# EAGLE library part ESP-WROOM-32_NOFLASH_PINHEAD (library esp32 _my)
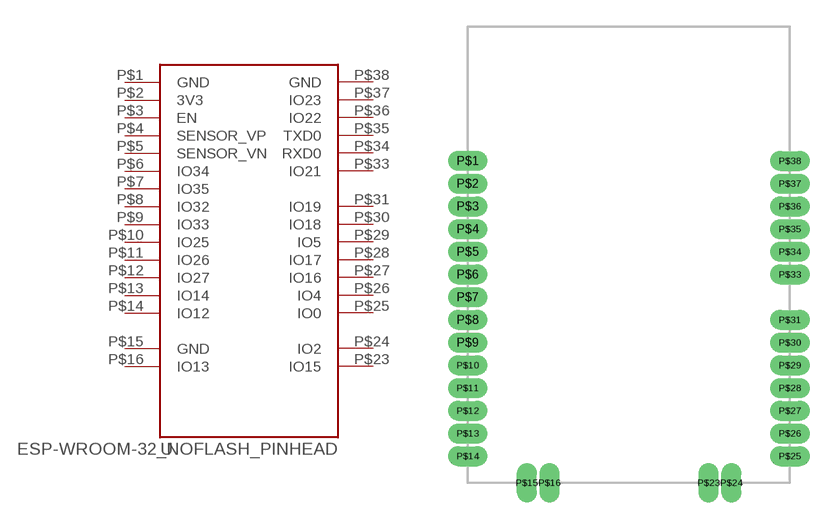
[diagram p1: symbol with the pads of ESP-WROOM-32_NOFLASH_PINHEAD; footprint ESP-WROOM-32_NOFLASH_PINHEAD]

Designator prefix -

## ESP-WROOM-32_NOFLASH_PINHEAD  [ESP-WROOM-32_NOFLASH_PINHEAD]
P$1  GND  pwr
P$2  3V3  pwr
P$3  EN  in
P$4  SENSOR_VP
P$5  SENSOR_VN
P$6  IO34
P$7  IO35
P$8  IO32
P$9  IO33
P$10  IO25
P$11  IO26
P$12  IO27
P$13  IO14
P$14  IO12
P$15  GND  pwr
P$16  IO13
P$23  IO15
P$24  IO2
P$25  IO0
P$26  IO4
P$27  IO16
P$28  IO17
P$29  IO5
P$30  IO18
P$31  IO19
P$33  IO21
P$34  RXD0
P$35  TXD0
P$36  IO22
P$37  IO23
P$38  GND  pwr

## Footprint ESP-WROOM-32_NOFLASH_PINHEAD (pad centres in mm)
drill 0.6 pad 0.9 long: P$1 0,18; P$2 0,16.73; P$3 0,15.46; P$4 0,14.19; P$5 0,12.92; P$6 0,11.65; P$7 0,10.38; P$8 0,9.11; P$9 0,7.84; P$10 0,6.57; P$11 0,5.3; P$12 0,4.03; P$13 0,2.76; P$14 0,1.49; P$15 3.3,0; P$16 4.57,0; P$23 13.46,0; P$24 14.73,0; P$25 18,1.49; P$26 18,2.76; P$27 18,4.03; P$28 18,5.3; P$29 18,6.57; P$30 18,7.84; P$31 18,9.11; P$33 18,11.65; P$34 18,12.92; P$35 18,14.19; P$36 18,15.46; P$37 18,16.73; P$38 18,18